# EAGLE library part A1250WR-6 (library hugo)
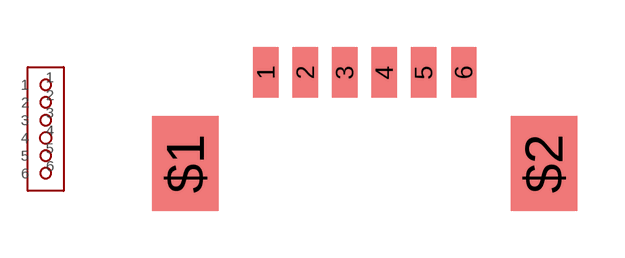
[diagram p8: symbol with the pads of A1250WR-6; footprint A1250WR-6]

Designator prefix -

## A1250WR-6  [A1250WR-6]
1  1
2  2
3  3
4  4
5  5
6  6
$1  GND  pwr
$2  GND  pwr

## Footprint A1250WR-6 (pad centres in mm)
smd 0.8 x 1.6: 1 -3.128,2.54; 2 -1.878,2.54; 3 -0.628,2.54; 4 0.622,2.54; 5 1.872,2.54; 6 3.142,2.54
smd 2.1 x 3: $1 -5.678,-0.34; $2 5.682,-0.34